# Altium footprint library Capacitors.PcbLib: 70 footprints (part 5 of 5)
Each footprint in its own frame and in the unit in brackets; x right, y up, seen from the top. Pads: shape width x height; smd on the part's side, far side on the other; paste and mask are expansions set on the pad; w line width, h text height; cw(c..) or ccw(c..) is an arc to the next point about the centre after c.
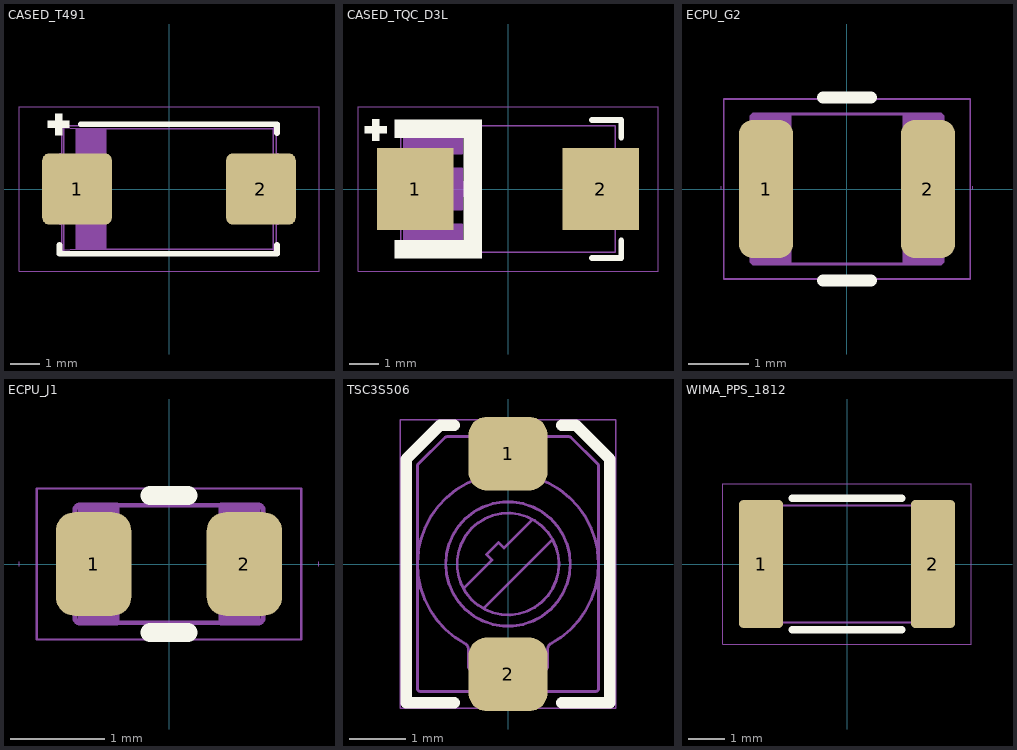
[diagram p4: the footprints below, top view; thin cyan lines are the x and y axes]

## CASED_T491 [mm] "Capacitor Case D T491 Series KEMET. Density Level B"
height 2.8
pads (2):
  rrect20% 2.37x2.43 smd paste-3 mask+0.05: 1(-3.125,0) 2(3.125,0)
Top Overlay:
  rectangle: -4.125,2.075 -3.375,2.325
  rectangle: -3.875,1.825 -3.625,2.575
  lines w0.2: -3.725,-1.9 -3.725,-2.2 3.675,-2.2 3.675,-1.9 ; -3,2.2 3.675,2.2 3.675,1.9
Top Paste:
  drawing of 8 lines, arcs and shapes, not listed
Top Courtyard:
  lines w0.025: -5.1,-2.8 5.1,-2.8 5.1,2.8 -5.1,2.8 -5.1,-2.8
Top Assembly:
  lines w0.05: -3.721,-0.5 -3.65,-0.5 ; -3.721,0.5 -3.65,0.5 ; -3.65,-1.2 -3.721,-1.2 -3.721,1.2 -3.65,1.2 ; -3.1,-2.045 -3.1,2.045 ; -3.05,-2.045 -3.05,2.045 ; -3,-2.045 -3,2.045 ; -2.95,-2.045 -2.95,2.045 ; -2.9,-2.045 -2.9,2.045 ; -2.85,-2.045 -2.85,2.045 ; -2.8,-2.045 -2.8,2.045 ; -2.75,-2.045 -2.75,2.045 ; -2.7,-2.045 -2.7,2.045 ; -2.65,-2.045 -2.65,2.045 ; -2.6,-2.045 -2.6,2.045 ; -2.55,-2.045 -2.55,2.045 ; -2.5,-2.045 -2.5,2.045 ; -2.45,-2.045 -2.45,2.045 ; -2.4,-2.045 -2.4,2.045 ; -2.35,-2.045 -2.35,2.045 ; -2.3,-2.045 -2.3,2.045 ; -2.25,-2.045 -2.25,2.045 ; -2.2,-2.045 -2.2,2.045 ; -2.15,-2.045 -2.15,2.045 ; 3.65,-1.2 3.721,-1.2 3.721,1.2 3.65,1.2 ; 3.65,-0.5 3.721,-0.5 ; 3.65,0.5 3.721,0.5 ; -3.65,-2.15 3.65,-2.15 ; -3.65,-2.15 -3.575,-2.075 ; -3.65,-2.15 -3.65,2.15 ; -3.65,2.15 -3.575,2.075 ; -3.65,2.15 3.65,2.15 ; -3.575,-2.075 -3.15,-2.045 ; -3.575,-2.075 -3.575,2.075 ; -3.575,2.075 -3.15,2.045 ; -3.15,-2.045 3.545,-2.045 ; -3.15,-2.045 -3.15,2.045 ; -3.15,2.045 3.545,2.045 ; 3.545,-2.045 3.545,2.045 ; 3.545,-2.045 3.65,-2.15 ; 3.545,2.045 3.65,2.15 ; 3.65,-2.15 3.65,2.15
  text ".Designator" at -6.065,-0.679 h3
3D body "CASED_T491.x_t": height 2.83, standoff -0.03, extent -3.721,-2.15 3.721,2.15

## CASED_TQC_D3L [mm] "Capacitor TQC-Series D3L Package"
height 2.8
pads (2):
  rect 2.6x2.8 smd paste-50 mask+0.05: 1(-3.15,0) 2(3.15,0)
Top Overlay:
  rectangle: -4.871,1.884 -4.121,2.134
  rectangle: -4.621,1.634 -4.371,2.384
  region: -3.85,-1.75 -1.5,-1.75 -1.5,1.75 -3.85,1.75 -3.85,2.35 -0.9,2.35 -0.9,-2.35 -3.85,-2.35
  lines w0.2: 2.85,-2.35 3.85,-2.35 3.85,-1.75 ; 2.85,2.35 3.85,2.35 3.85,1.75
Top Paste:
  region: 4.4,-0.55 3.7,-0.55 3.7,-1.25 4.4,-1.25
  region: 2.6,-0.55 1.9,-0.55 1.9,-1.25 2.6,-1.25
  region: 3.5,-0.55 2.8,-0.55 2.8,-1.25 3.5,-1.25
  region: 1.9,1.25 1.9,0.55 2.6,0.55 2.6,1.25
  region: 2.8,1.25 2.8,0.55 3.5,0.55 3.5,1.25
  region: 3.7,1.25 3.7,0.55 4.4,0.55 4.4,1.25
  region: 4.4,0.35 3.7,0.35 3.7,-0.35 4.4,-0.35
  region: 2.6,0.35 1.9,0.35 1.9,-0.35 2.6,-0.35
  region: 3.5,0.35 2.8,0.35 2.8,-0.35 3.5,-0.35
  rectangle: -4.4,-1.25 -3.7,-0.55
  rectangle: -2.6,-1.25 -1.9,-0.55
  rectangle: -3.5,-1.25 -2.8,-0.55
  region: -2.6,1.25 -2.6,0.55 -1.9,0.55 -1.9,1.25
  region: -3.5,1.25 -3.5,0.55 -2.8,0.55 -2.8,1.25
  region: -4.4,1.25 -4.4,0.55 -3.7,0.55 -3.7,1.25
  rectangle: -4.4,-0.35 -3.7,0.35
  rectangle: -2.6,-0.35 -1.9,0.35
  rectangle: -3.5,-0.35 -2.8,0.35
Top Courtyard:
  lines w0.025: -5.1,-2.8 5.1,-2.8 5.1,2.8 -5.1,2.8 -5.1,-2.8
Top Assembly:
  lines w0.05: -3.65,-1.2 -3.85,-1.2 -3.85,1.2 -3.65,1.2 ; -3.5,-2.05 -3.5,2.05 ; -3.45,-2.05 -3.45,2.05 ; -3.4,-2.05 -3.4,2.05 ; -3.35,-2.05 -3.35,2.05 ; -3.3,-2.05 -3.3,2.05 ; -3.25,-2.05 -3.25,2.05 ; -3.2,-2.05 -3.2,2.05 ; -3.15,-2.05 -3.15,2.05 ; -3.1,-2.05 -3.1,2.05 ; -3.05,-2.05 -3.05,2.05 ; -3,-2.05 -3,2.05 ; -2.95,-2.05 -2.95,2.05 ; -2.9,-2.05 -2.9,-1.2 ; -2.9,2.05 -2.9,1.2 ; -2.85,-2.05 -2.85,-1.2 ; -2.85,1.2 -2.85,2.05 ; -2.8,-2.05 -2.8,-1.2 ; -2.8,1.2 -2.8,2.05 ; -2.75,-2.05 -2.75,-1.2 ; -2.75,1.2 -2.75,2.05 ; -2.7,-2.05 -2.7,-1.2 ; -2.7,1.2 -2.7,2.05 ; -2.65,-2.05 -2.65,-1.2 ; -2.65,1.2 -2.65,2.05 ; -2.6,-2.05 -2.6,-1.2 ; -2.6,1.2 -2.6,2.05 ; -2.55,-2.05 -2.55,-1.2 ; -2.55,1.2 -2.55,2.05 ; -2.5,-2.05 -2.5,-1.2 ; -2.5,1.2 -2.5,2.05 ; -2.45,-2.05 -2.45,-1.2 ; -2.45,-0.25 -2.45,0.25 ; -2.45,1.2 -2.45,2.05 ; -2.4,-2.05 -2.4,-1.2 ; -2.4,-0.25 -2.4,0.25 ; -2.4,1.2 -2.4,2.05 ; -2.35,-2.05 -2.35,-1.2 ; -2.35,-0.25 -2.35,0.25 ; -2.35,1.2 -2.35,2.05 ; -2.3,-2.05 -2.3,-1.2 ; -2.3,-0.25 -2.3,0.25 ; -2.3,1.2 -2.3,2.05 ; -2.25,-2.05 -2.25,-1.2 ; -2.25,-0.25 -2.25,0.25 ; -2.25,1.2 -2.25,2.05 ; -2.2,-2.05 -2.2,-1.2 ; -2.2,-0.25 -2.2,0.25 ; -2.2,1.2 -2.2,2.05 ; -2.15,-2.05 -2.15,-1.2 ; -2.15,-0.25 -2.15,0.25 ; -2.15,1.2 -2.15,2.05 ; -2.1,-2.05 -2.1,-1.2 ; -2.1,-0.25 -2.1,0.25 ; -2.1,1.2 -2.1,2.05 ; -2.05,-2.05 -2.05,-1.2 ; -2.05,1.2 -2.05,2.05 ; -2,-2.05 -2,-1.2 ; -2,-0.7 -2,0.7 ; -2,1.2 -2,2.05 ; -1.95,-2.05 -1.95,-1.2 ; -1.95,-0.7 -1.95,0.7 ; -1.95,1.2 -1.95,2.05 ; -1.9,-2.05 -1.9,-1.2 ; -1.9,-0.7 -1.9,0.7 ; -1.9,1.2 -1.9,2.05 ; -1.85,-2.05 -1.85,-1.2 ; -1.85,-0.7 -1.85,0.7 ; -1.85,1.2 -1.85,2.05 ; -1.8,-2.05 -1.8,-1.2 ; -1.8,-0.7 -1.8,0.7 ; -1.8,1.2 -1.8,2.05 ; -1.75,-2.05 -1.75,-1.2 ; -1.75,-0.7 -1.75,0.7 ; -1.75,1.2 -1.75,2.05 ; -1.7,-2.05 -1.7,-1.2 ; -1.7,-0.7 -1.7,0.7 ; -1.7,1.2 -1.7,2.05 ; -1.65,-2.05 -1.65,-1.2 ; -1.65,-0.7 -1.65,0.7 ; -1.65,1.2 -1.65,2.05 ; -1.6,-2.05 -1.6,-1.2 ; -1.6,-0.7 -1.6,0.7 ; -1.6,1.2 -1.6,2.05 ; -1.5,-0.25 -1.5,0.25 ; -1.45,-0.25 -1.45,0.25 ; -1.4,-0.25 -1.4,0.25 ; -1.35,-0.25 -1.35,0.25 ; -1.3,-0.25 -1.3,0.25 ; -1.25,-0.25 -1.25,0.25 ; -1.2,-0.25 -1.2,0.25 ; -1.15,-0.25 -1.15,0.25 ; 3.65,-1.2 3.85,-1.2 3.85,1.2 3.65,1.2 ; -2.9,-1.2 -1.55,-1.2 -1.55,-2.05 -3.55,-2.05 -3.55,2.05 -1.55,2.05 -1.55,1.2 -2.9,1.2 ; -2.9,-1.2 -2.9,1.2 ; -2.05,-0.25 -2.05,0.25 ; -2.05,-0.25 -2.5,-0.25 -2.5,0.25 -2.05,0.25 ; -2.05,-0.25 -2.05,-0.7 -1.55,-0.7 -1.55,-0.25 ; -2.05,0.25 -2.05,0.7 -1.55,0.7 -1.55,0.25 ; -1.55,-0.25 -1.55,0.25 ; -1.55,-0.25 -1.1,-0.25 -1.1,0.25 -1.55,0.25 ; -3.65,-2.15 -3.65,2.15 3.65,2.15 3.65,-2.15 -3.65,-2.15
  text ".Designator" at -3.261,-0.453 h2
3D body "TQC_D3L.x_t": height 2.85, standoff 0.05, extent -3.85,-2.15 3.85,2.15

## ECPU_G2 [mm] "Stacked Metallized Plastic Film Chip Capacitor ECPU Series"
height 1.4
pads (2):
  rrect50% 0.9x2.3 smd mask+0.05: 1(-1.35,0) 2(1.35,0)
Top Overlay:
  lines w0.2: -0.4,-1.525 0.4,-1.525 ; -0.4,1.525 0.4,1.525
Top Courtyard:
  lines w0.025: -2.05,-1.5 -2.05,1.5 2.05,1.5 2.05,-1.5 -2.05,-1.5
Top Assembly:
  lines w0.01: -2.095,0 -2.095,0.05 ; 2.095,0 2.095,0.05
  lines w0.05: -1.548,-1.25 -1.548,1.25 ; -1.498,-1.25 -1.498,1.25 ; -1.448,-1.25 -1.448,1.25 ; -1.398,-1.25 -1.398,1.25 ; -1.348,-1.25 -1.348,1.25 ; -1.298,-1.25 -1.298,1.25 ; -1.248,-1.25 -1.248,1.25 ; -1.198,-1.25 -1.198,1.25 ; -1.148,-1.25 -1.148,1.25 ; -1.098,-1.25 -1.098,1.25 ; -1.048,-1.25 -1.048,1.25 ; -0.998,-1.25 -0.998,1.25 ; -0.95,-1.249 0.95,-1.249 ; -0.95,1.249 0.95,1.249 ; 0.998,-1.25 0.998,1.25 ; 1.048,-1.25 1.048,1.25 ; 1.098,-1.25 1.098,1.25 ; 1.148,-1.25 1.148,1.25 ; 1.198,-1.25 1.198,1.25 ; 1.248,-1.25 1.248,1.25 ; 1.298,-1.25 1.298,1.25 ; 1.348,-1.25 1.348,1.25 ; 1.398,-1.25 1.398,1.25 ; 1.448,-1.25 1.448,1.25 ; 1.498,-1.25 1.498,1.25 ; 1.548,-1.25 1.548,1.25 ; -1.6,-1.195 ccw(c-1.545,-1.195) -1.545,-1.25 -0.95,-1.25 -0.95,-1.247 -0.95,-1.212 -0.95,1.212 -0.95,1.247 -0.95,1.25 -1.545,1.25 ccw(c-1.545,1.195) -1.6,1.195 -1.6,-1.195 ; 0.95,-1.25 1.545,-1.25 ccw(c1.545,-1.195) 1.6,-1.195 1.6,1.195 ccw(c1.545,1.195) 1.545,1.25 0.95,1.25 0.95,1.247 0.95,1.212 0.95,-1.212 0.95,-1.247 0.95,-1.25
  text ".Designator" at -2.252,-0.226 h1
3D body "ECPU1C105MA5.x_t": height 1.4, standoff 0, extent -1.6,-1.25 1.6,1.25

## ECPU_J1 [mm] "Stacked Metallized Plastic Film Chip Capacitor ECPU Series"
height 1
pads (2):
  rrect50% 0.8x1.1 smd mask+0.05: 1(-0.8,0) 2(0.8,0)
Top Overlay:
  lines w0.2: -0.2,-0.725 0.2,-0.725 ; -0.2,0.725 0.2,0.725
Top Courtyard:
  lines w0.025: -1.4,-0.8 -1.4,0.8 1.4,0.8 1.4,-0.8 -1.4,-0.8
Top Assembly:
  lines w0.01: -1.59,-0.025 -1.59,0.025 ; 1.59,-0.025 1.59,0.025
  lines w0.05: -0.947,-0.625 -0.947,0.625 ; -0.897,-0.625 -0.897,0.625 ; -0.847,-0.625 -0.847,0.625 ; -0.797,-0.625 -0.797,0.625 ; -0.747,-0.625 -0.747,0.625 ; -0.697,-0.625 -0.697,0.625 ; -0.647,-0.625 -0.647,0.625 ; -0.597,-0.625 -0.597,0.625 ; -0.55,-0.624 0.55,-0.624 ; -0.55,0.624 0.55,0.624 ; 0.597,-0.625 0.597,0.625 ; 0.647,-0.625 0.647,0.625 ; 0.697,-0.625 0.697,0.625 ; 0.747,-0.625 0.747,0.625 ; 0.797,-0.625 0.797,0.625 ; 0.847,-0.625 0.847,0.625 ; 0.897,-0.625 0.897,0.625 ; 0.947,-0.625 0.947,0.625 ; -1,-0.57 ccw(c-0.945,-0.57) -0.945,-0.625 -0.55,-0.625 -0.55,-0.622 -0.55,-0.587 -0.55,0.587 -0.55,0.622 -0.55,0.625 -0.945,0.625 ccw(c-0.945,0.57) -1,0.57 -1,-0.57 ; 0.55,-0.625 0.945,-0.625 ccw(c0.945,-0.57) 1,-0.57 1,0.57 ccw(c0.945,0.57) 0.945,0.625 0.55,0.625 0.55,0.622 0.55,0.587 0.55,-0.587 0.55,-0.622 0.55,-0.625
  text ".Designator" at -2.252,0.624 h1
3D body "ECPU1C104MA5.x_t": height 1, standoff 0, extent -1,-0.625 1,0.625

## TSC3S506 [mm] "Ceramic Trimmer Capacitor – 3mm"
height 1.5
pads (2):
  rrect50% 1.4x1.3 smd paste+0 mask+0.05: 1(0,1.95) 2(0,-1.95)
Top Overlay:
  lines w0.2: -0.95,-2.45 -1.8,-2.45 -1.8,1.85 -1.2,2.45 -0.95,2.45 ; 0.95,-2.45 1.8,-2.45 1.8,1.85 1.2,2.45 0.95,2.45
Top Courtyard:
  lines w0.025: -1.9,-2.55 1.9,-2.55 1.9,2.55 -1.9,2.55 -1.9,-2.55
Top Assembly:
  circle w0.05: c0,0 r0.9
  circle w0.05: c0,0 r1.1
  lines w0.05: -0.788,-0.435 -0.283,0.071 -0.377,0.165 -0.165,0.377 -0.071,0.283 0.435,0.788 ; -0.46,-1.9 -0.46,-2.2 cw(c-0.51,-2.2) -0.51,-2.25 -1.55,-2.25 cw(c-1.55,-2.2) -1.6,-2.2 -1.6,1.729 cw(c-1.55,1.729) -1.585,1.765 -1.115,2.235 cw(c-1.079,2.2) -1.079,2.25 -0.55,2.25 cw(c-0.55,2.2) -0.5,2.2 -0.5,1.7 ccw(c-0.45,1.7) -0.45,1.65 0.45,1.65 ccw(c0.45,1.7) 0.5,1.7 0.5,2.2 cw(c0.55,2.2) 0.55,2.25 1.079,2.25 cw(c1.079,2.2) 1.115,2.235 1.585,1.765 cw(c1.55,1.729) 1.6,1.729 1.6,-2.2 cw(c1.55,-2.2) 1.55,-2.25 0.51,-2.25 cw(c0.51,-2.2) 0.46,-2.2 0.46,-1.9 ; -0.45,-2.25 0.45,-2.25 ; -0.45,-1.9 -0.45,-2.3 0.45,-2.3 0.45,-1.9 ; -0.45,1.76 0.45,1.76 ; -0.45,1.81 0.45,1.81 ; -0.45,1.86 0.45,1.86 ; -0.45,2.25 0.45,2.25 ; -0.435,-0.788 0.788,0.435 ; -0.3,-1.75 0.3,-1.75 ; -0.247,-1.6 0.247,-1.6 ; -0.3,-1.8 cw(c-0.4,-1.8) -0.4,-1.9 -0.6,-1.9 cw(c-0.6,-1.8) -0.7,-1.8 -0.7,-1.5 ccw(c-0.8,-1.5) -0.753,-1.412 cw(c0,0) 0.753,-1.412 ccw(c0.8,-1.5) 0.7,-1.5 0.7,-1.8 cw(c0.6,-1.8) 0.6,-1.9 0.4,-1.9 cw(c0.4,-1.8) 0.3,-1.8 ; -0.3,-1.8 0.3,-1.8 ; -0.3,-1.8 -0.3,-1.688 cw(c-0.2,-1.688) -0.188,-1.589 ccw(c0,0) 0.188,-1.589 cw(c0.2,-1.688) 0.3,-1.688 0.3,-1.8 ; -0.45,1.66 -0.45,2.3 0.45,2.3 0.45,1.66 -0.45,1.66
  text ".Designator" at -2.024,-2.252 h1
3D body "TSC3S506_X_T.x_t": height 1.55, standoff 0, extent -1.6,-2.3 1.6,2.3

## WIMA_PPS_1812 [mm] "WIMA Metallized Polyphenylene-Sulphide Capacitors, Size 1812, H = 3.5mm"
height 3.5
pads (2):
  rrect20% 1.2x3.5 smd paste-3 mask+0.05: 1(-2.35,0) 2(2.35,0)
Top Overlay:
  lines w0.2: -1.5,-1.8 1.5,-1.8 ; -1.5,1.8 1.5,1.8
Top Paste:
  drawing of 12 lines, arcs and shapes, not listed
Top Courtyard:
  lines w0.025: -3.4,-2.2 -3.4,2.2 3.4,2.2 3.4,-2.2 -3.4,-2.2
Top Assembly:
  lines w0.01: -2.645,-0.025 -2.645,0.025 ; 2.645,-0.025 2.645,0.025
  lines w0.05: -2.25,-1.65 -2.25,1.65 ; -2.2,-1.65 -2.2,1.65 ; -1.9,-1.6 1.9,-1.6 ; -1.9,1.6 1.9,1.6 ; 2.2,-1.65 2.2,1.65 ; 2.25,-1.65 2.25,1.65 ; -2.4,-1.65 -1.9,-1.65 -1.9,1.65 -2.4,1.65 -2.4,-1.65 ; 1.9,-1.65 1.9,1.65 2.4,1.65 2.4,-1.65 1.9,-1.65
  text ".Designator" at -3.378,-0.339 h1.5
3D body "WIMA_PPS_1812_H_3MM.x_t": height 3.5, standoff 0, extent -2.4,-1.65 2.4,1.65